# EAGLE library part BQ40Z80RSMT (library BQ40Z80)
2-Series to 7-Series Battery Pack Manager with Impedance Track Gas Gauging 32-VQFN -40 to 85 Check availability <https://pricing.snapeda.com/parts/BQ40Z80RSMT/Texas%20Instruments/view-part?ref=eda>
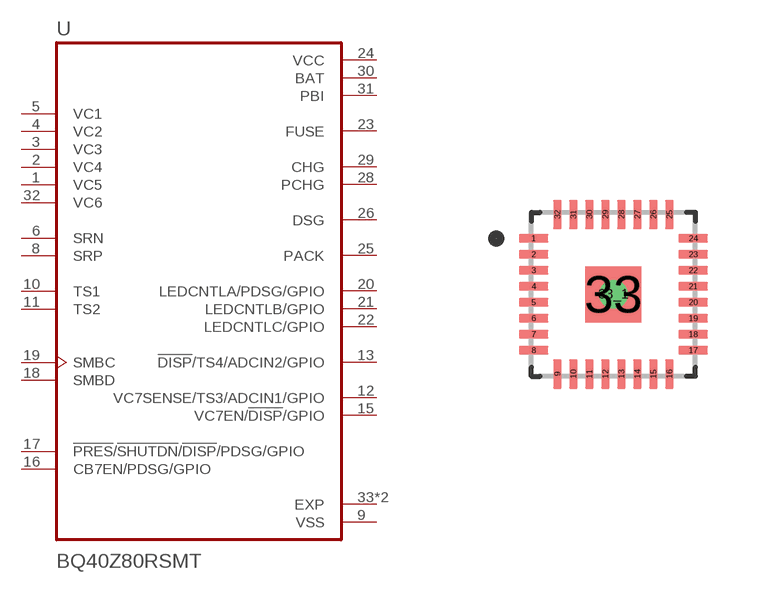
[diagram p0: symbol with the pads of QFN40P400X400X100-33N; footprint QFN40P400X400X100-33N]

Designator prefix U

## BQ40Z80RSMT (Availability: In Stock; Description: 2-s to 6-s battery pack manager with Impedance Track&trade; gas gauging; MF: Texas Instruments; MP: BQ40Z80RSMT; Package: VQFN-32 Texas Instruments; Price: None; Purchase-URL: https://pricing.snapeda.com/search/part/BQ40Z80RSMT/?ref=eda)  [QFN40P400X400X100-33N]
1  VC5  in
2  VC4  in
3  VC3  in
4  VC2  in
5  VC1  in
6  SRN  in
8  SRP  in
9  VSS  pwr
10  TS1  in
11  TS2  in
12  VC7SENSE/TS3/ADCIN1/GPIO
13  !DISP!/TS4/ADCIN2/GPIO
15  VC7EN/!DISP!/GPIO
16  CB7EN/PDSG/GPIO
17  !PRES!/!SHUTDN!/!DISP!/PDSG/GPIO
18  SMBD
19  SMBC
20  LEDCNTLA/PDSG/GPIO  out
21  LEDCNTLB/GPIO  out
22  LEDCNTLC/GPIO  out
23  FUSE  out
24  VCC  pwr
25  PACK  in
26  DSG  out
28  PCHG  out
29  CHG  out
30  BAT  pwr
31  PBI  pwr
32  VC6  in
33  EXP  pwr
33_1  EXP  pwr

## Footprint QFN40P400X400X100-33N (pad centres in mm)
smd 0.74 x 0.22: 1 -1.995,1.4; 2 -1.995,1; 3 -1.995,0.6; 4 -1.995,0.2; 5 -1.995,-0.2; 6 -1.995,-0.6; 7 -1.995,-1; 8 -1.995,-1.4; 17 1.995,-1.4; 18 1.995,-1; 19 1.995,-0.6; 20 1.995,-0.2; 21 1.995,0.2; 22 1.995,0.6; 23 1.995,1; 24 1.995,1.4
smd 0.22 x 0.74: 9 -1.4,-1.995; 10 -1,-1.995; 11 -0.6,-1.995; 12 -0.2,-1.995; 13 0.2,-1.995; 14 0.6,-1.995; 15 1,-1.995; 16 1.4,-1.995; 25 1.4,1.995; 26 1,1.995; 27 0.6,1.995; 28 0.2,1.995; 29 -0.2,1.995; 30 -0.6,1.995; 31 -1,1.995; 32 -1.4,1.995
smd 1.4 x 1.4: 33 0,0
drill 0.2 pad 0.4: 33_1 0,0